# EAGLE library part IC-ULN2003V12DR (library RelayBoard)
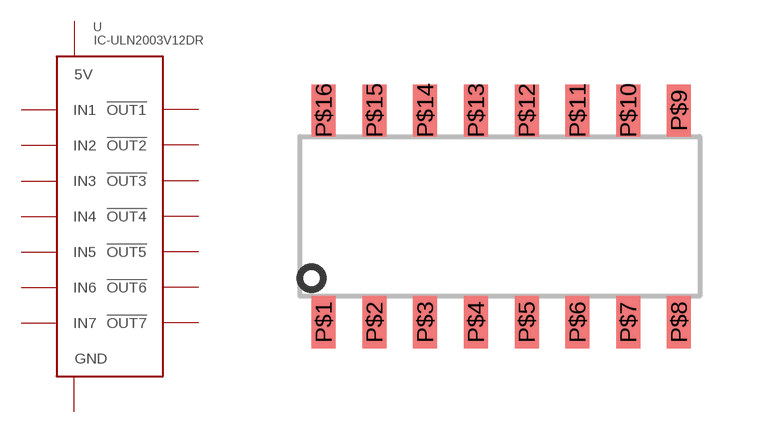
[diagram p10: symbol with the pads of SOIC-16-NXP-SOT109-1; footprint SOIC-16-NXP-SOT109-1]

Designator prefix -

## IC-ULN2003V12DR  [SOIC-16-NXP-SOT109-1]
P$1  IN1  in
P$2  IN2  in
P$3  IN3  in
P$4  IN4  in
P$5  IN5  in
P$6  IN6  in
P$7  IN7  in
P$8  GND  pwr
P$9  5V  pwr
P$10  !OUT7  out
P$11  !OUT6  out
P$12  !OUT5  out
P$13  !OUT4  out
P$14  !OUT3  out
P$15  !OUT2  out
P$16  !OUT1  out

## Footprint SOIC-16-NXP-SOT109-1 (pad centres in mm)
http://www.nxp.com/documents/reflow_soldering/SO-SOJ-REFLOW.pdf
smd 0.6 x 1.3: P$1 0,-5.3; P$2 1.27,-5.3; P$3 2.54,-5.3; P$4 3.81,-5.3; P$5 5.08,-5.3; P$6 6.35,-5.3; P$7 7.62,-5.3; P$8 8.89,-5.3; P$9 8.89,0; P$10 7.62,0; P$11 6.35,0; P$12 5.08,0; P$13 3.81,0; P$14 2.54,0; P$15 1.27,0; P$16 0,0